# Altium schematic symbol library CAP-SMD.SchLib: 1 symbol
Pins are listed as number, name and electrical type; pins without a type are passive.

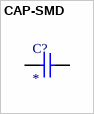
[diagram p0: symbol CAP-SMD]

## CAP-SMD
designator C?
SMD Capacitor Packages
footprint C0402-L
footprint C0603-L
footprint C0805-L
footprint C1206-L
pins: 1, 2